# Altium footprint library a_Valider_HD.PcbLib: 10 footprints
Each footprint in its own frame and in the unit in brackets; x right, y up, seen from the top. Pads: shape width x height; smd on the part's side, far side on the other; paste and mask are expansions set on the pad; w line width, h text height; cw(c..) or ccw(c..) is an arc to the next point about the centre after c.
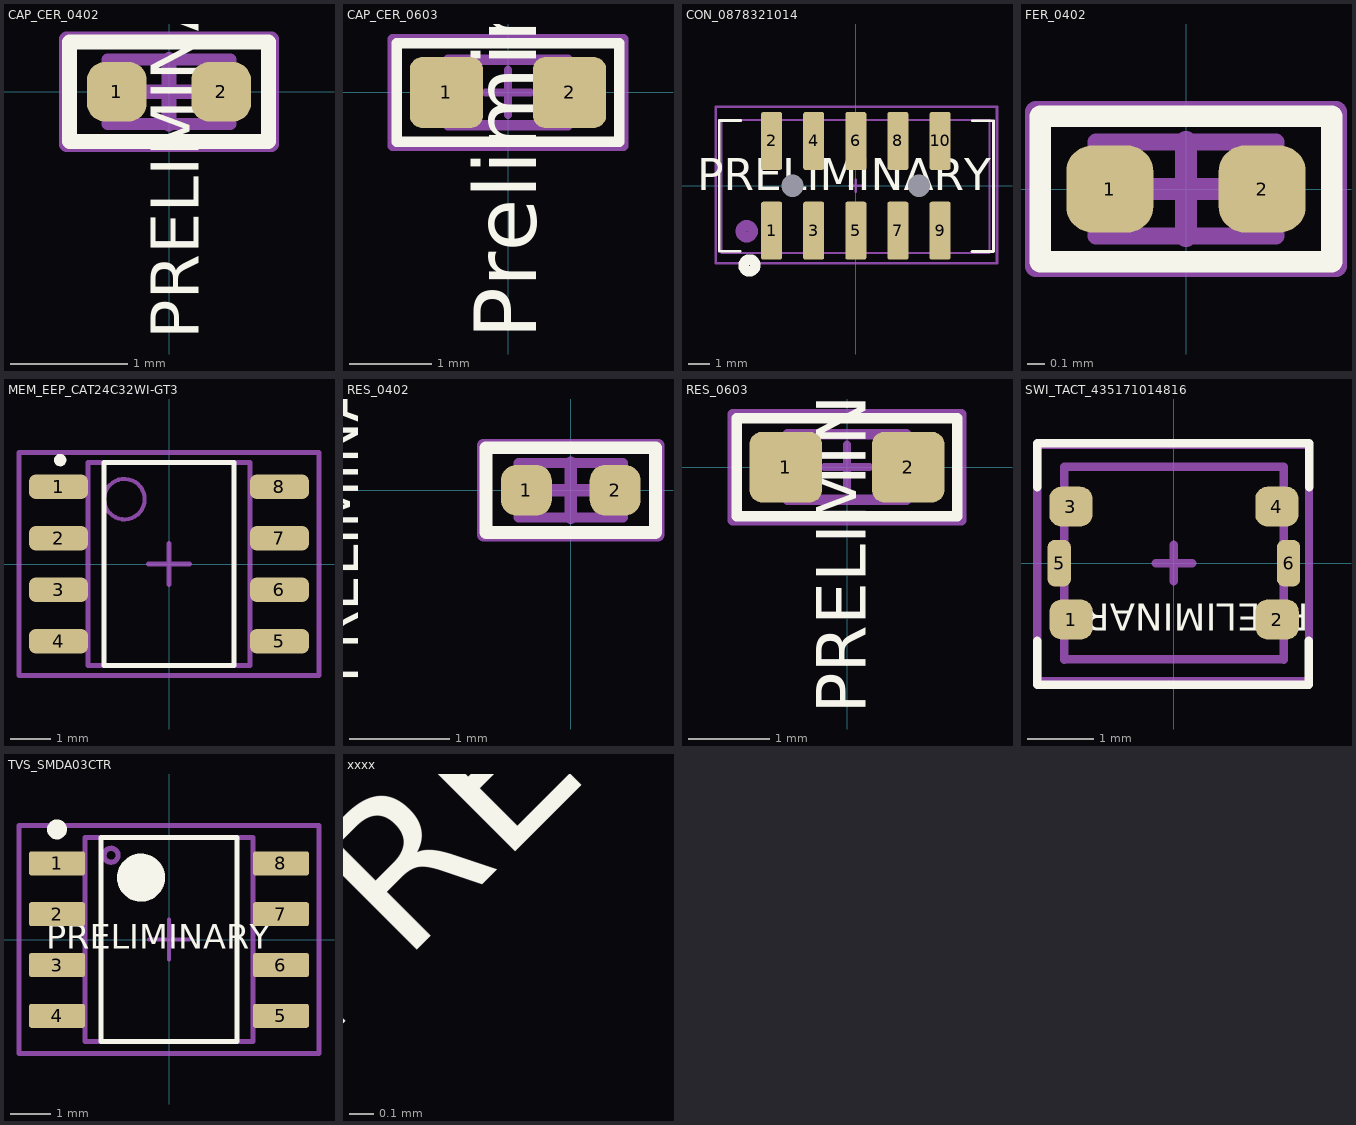
[diagram p0: the footprints below, top view; thin cyan lines are the x and y axes]

## CAP_CER_0402 [mil] "Ceramic Capacitor - 0402"
height 23.62
pads (2):
  rrect60% 20x20 smd paste+0 mask+1.97: 1(-17.5,0) 2(17.5,0)
Top Overlay:
  lines w5: -33.46,-16.73 -33.46,16.73 33.46,16.73 33.46,-16.73 -33.46,-16.73
  text "PRELIMINARY" at 10,-83 h16
Top Assembly Drawing:
  lines w3.94: -20.67,-10.83 -20.67,10.83 20.67,10.83 20.67,-10.83 -20.67,-10.83
Top Courtyard:
  lines w5: -10.83,0 10.83,0 ; 0,-10.83 0,10.83 ; -34.45,-17.72 34.45,-17.72 34.45,17.72 -34.45,17.72 -34.45,-17.72
3D body "Cap0402.step": height 19.68, standoff 0, extent -19.37,-9.69 20,10

## CAP_CER_0603 [mil] "Ceramic Capacitor - 0603"
height 31.5
pads (2):
  rrect35% 35x34 smd paste+0 mask+1.97: 1(-29.5,0) 2(29.5,0)
Top Overlay:
  lines w5: -53.15,-23.62 -53.15,23.62 53.15,23.62 53.15,-23.62 -53.15,-23.62
  text "Preliminary" at 13.5,-118 h30
Top Assembly Drawing:
  lines w5: -28.54,-15.75 -28.54,15.75 28.54,15.75 28.54,-15.75 -28.54,-15.75
Top Courtyard:
  lines w3.94: -10.83,0 10.83,0 ; 0,-10.83 0,10.83
  lines w5: -55.12,-25.59 -55.12,25.59 55.12,25.59 55.12,-25.59 -55.12,-25.59
3D body "Cap0603.step": height 35.43, standoff 0, extent -31.5,-15.75 31.5,15.75

## CON_0878321014 [mm]
pads (12):
  round 0 hole 1.05: 0(-3,0) 0(3,0)
  rrect20% 1x2.75 smd: 1(-4,-2.13) 2(-4,2.13) 3(-2,-2.13) 4(-2,2.13) 5(0,-2.13) 6(0,2.13) 7(2,-2.13) 8(2,2.13) 9(4,-2.13) 10(4,2.13)
Top Overlay:
  circle w0.5: c-5.055,-3.785 r0.279
  lines w0.127: -5.492,-3.115 -6.492,-3.115 -6.492,3.099 -5.467,3.099 ; 5.517,-3.124 6.543,-3.124 6.543,3.09 5.543,3.09
  text "PRELIMINARY" at -7.544,-0.203 h1.52
Top Assembly Drawing:
  circle w0.5: c-5.182,-2.159 r0.279
  lines w0.1: -6.375,-3.2 6.35,-3.2 6.35,3.124 -6.375,3.124 -6.375,-3.2
Top Courtyard:
  lines w0.127: -0.275,0 0.275,0 ; 0,-0.275 0,0.275 ; -6.655,-3.683 6.706,-3.683 6.706,3.759 -6.655,3.759 -6.655,-3.683
3D body "878321014.stp": height 4.65, standoff -4.4, extent -6.325,-3.2 6.325,3.15

## FER_0402 [mil] "Ferrite - 0402"
height 23.62
pads (2):
  rrect60% 20x20 smd paste+0 mask+1.97: 1(-17.5,0) 2(17.5,0)
Top Overlay:
  lines w5: -33.46,-16.73 -33.46,16.73 33.46,16.73 33.46,-16.73 -33.46,-16.73
Top Assembly Drawing:
  lines w3.94: -20.67,-10.83 -20.67,10.83 20.67,10.83 20.67,-10.83 -20.67,-10.83
Top Courtyard:
  lines w5: -10.83,0 10.83,0 ; 0,-10.83 0,10.83 ; -34.45,-17.72 34.45,-17.72 34.45,17.72 -34.45,17.72 -34.45,-17.72
3D body "44278.stp": height 19.29, standoff -0.39, extent -19.69,-9.84 19.68,9.84

## MEM_EEP_CAT24C32WI-GT3 [mm] "SOIC, 8-Leads, Body 4,90x3,90mm, Pitch 1,27mm, IPC Medium Density"
height 1.75
pads (8):
  rrect50% 1.45x0.6 smd paste+0 mask+0.1: 1(-2.725,1.905) 2(-2.725,0.635) 3(-2.725,-0.635) 4(-2.725,-1.905) 5(2.725,-1.905) 6(2.725,-0.635) 7(2.725,0.635) 8(2.725,1.905)
Top Overlay:
  circle w0.152: c-2.683,2.563 r0.076
  lines w0.127: -1.6,-2.5 1.6,-2.5 1.6,2.5 -1.6,2.5 -1.6,-2.5
Top Assembly Drawing:
  circle w0.1: c-1.1,1.6 r0.5
  lines w0.127: -2,-2.5 2,-2.5 2,2.5 -2,2.5 -2,-2.5
Top Courtyard:
  lines w0.127: -0.5,0 0.5,0 ; 0,-0.5 0,0.5 ; -3.7,-2.75 3.7,-2.75 3.7,2.75 -3.7,2.75 -3.7,-2.75
3D body "SOIC127P600X175-8N.step": height 1.75, standoff 0, extent -3,-2.5 3,2.5

## RES_0402 [mil] "Resistor - 0402"
height 13.78
pads (2):
  rrect60% 20x20 smd paste+0 mask+1.97: 1(-17.5,0) 2(17.5,0)
Top Overlay:
  lines w5: -33.46,-16.73 33.46,-16.73 33.46,16.73 -33.46,16.73 -33.46,-16.73
  text "PRELIMINARY" at -84,-76 h16
Top Assembly Drawing:
  lines w3.94: -20.67,-10.83 20.67,-10.83 20.67,10.83 -20.67,10.83 -20.67,-10.83
Top Courtyard:
  lines w5: -10.83,0 10.83,0 ; 0,-10.83 0,10.83 ; -34.45,-17.72 -34.45,17.72 34.45,17.72 34.45,-17.72 -34.45,-17.72
3D body "User Library-User Library-RES0402-2.STEP": height 12.99, standoff -0.79, extent -19.68,-9.84 19.7,9.85

## RES_0603 [mil] "Resistor - 0603"
height 17.72
pads (2):
  rrect35% 35x34 smd paste+0 mask+1.97: 1(-29.5,0) 2(29.5,0)
Top Overlay:
  lines w5: -53.15,-23.62 53.15,-23.62 53.15,23.62 -53.15,23.62 -53.15,-23.62
  text "PRELIMINARY" at 9,-119 h24
Top Assembly Drawing:
  lines w5: -28.54,-15.75 28.54,-15.75 28.54,15.75 -28.54,15.75 -28.54,-15.75
Top Courtyard:
  lines w3.94: -10.83,0 10.83,0 ; 0,-10.83 0,10.83
  lines w5: -55.12,-25.59 55.12,-25.59 55.12,25.59 -55.12,25.59 -55.12,-25.59
3D body "RES0603.stp": height 16.93, standoff -0.79, extent -31.49,-15.74 31.51,15.76

## SWI_TACT_435171014816 [mm]
pads (6):
  rrect60% 0.65x0.6 smd paste+0 mask+0.05: 1(-1.546,-0.848) 2(1.554,-0.848) 3(-1.55,0.85) 4(1.55,0.85)
  rrect60% 0.35x0.7 smd paste+0 mask+0.05: 5(-1.725,0) 6(1.725,0)
Top Overlay:
  lines w0.127: -2.057,-1.168 -2.057,-1.829 2.032,-1.829 ; -2.057,1.143 -2.057,1.803 2.036,1.803 2.036,1.143 ; 2.028,-1.829 2.028,-1.168
  text "PRELIMINARY" at 2.032,-0.61 h0.41
Top Assembly Drawing:
  lines w0.127: -1.651,-1.45 -1.651,1.45 ; -1.651,-1.448 1.65,-1.448 ; -1.651,1.448 1.649,1.448 ; 1.651,-1.45 1.651,1.45
Top Courtyard:
  lines w0.127: -0.275,0 0.275,0 ; 0,-0.275 0,0.275 ; -2.057,-1.778 -2.057,1.778 2.032,1.778 2.032,-1.778 -2.057,-1.778
3D body "WS-TASV SMT Tact Switch v4.step": height 1.4, standoff 0, extent -1.65,-1.45 1.65,1.45

## TVS_SMDA03CTR [mm] "TVS - TVS DIODE 3.3V 7V - 8-SOIC"
height 1.8
pads (8):
  rrect20% 1.4x0.6 smd: 1(-2.8,1.905) 2(-2.8,0.635) 3(-2.8,-0.635) 4(-2.8,-1.905) 5(2.8,-1.905) 6(2.8,-0.635) 7(2.8,0.635) 8(2.8,1.905)
Top Overlay:
  circle w0.25: c-2.8,2.755 r0.125
  circle w0.6: c-0.7,1.55 r0.3
  lines w0.127: -1.7,-2.55 -1.7,2.55 1.7,2.55 1.7,-2.55 -1.7,-2.55
  text "PRELIMINARY" at -3.073,-0.229 h0.61
Top Assembly Drawing:
  lines w0.127: -1.541,1.96 cw(c-1.448,2.108) -1.539,1.959 ; -2.1,-2.55 2.1,-2.55 2.1,2.55 -2.1,2.55 -2.1,-2.55
Top Courtyard:
  lines w0.1: -0.5,0 0.5,0 ; 0,-0.5 0,0.5
  lines w0.127: -3.75,-2.85 -3.75,2.85 3.75,2.85 3.75,-2.85 -3.75,-2.85
3D body: height 1.8, standoff 0.25, extent -2.1,-2.55 2.1,2.55

## xxxx [mm]
Top Overlay:
  text "PRELIMINARY" at -2.464,-2.997 h1.25